# EAGLE library part TC1320EOA (library unicorn)
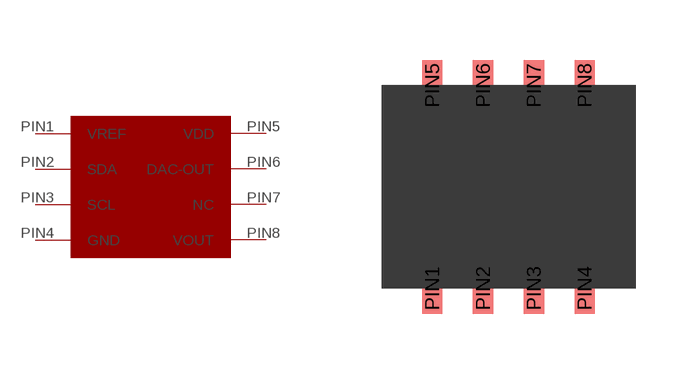
[diagram p2: symbol with the pads of SOIC8; footprint SOIC8]

Designator prefix -

## TC1320EOA  [SOIC8]
PIN1  VREF
PIN2  SDA
PIN3  SCL
PIN4  GND
PIN5  VDD
PIN6  DAC-OUT
PIN7  NC
PIN8  VOUT

## Footprint SOIC8 (pad centres in mm)
smd 0.508 x 1.27: PIN1 -1.27,-2.54; PIN2 0,-2.54; PIN3 1.27,-2.54; PIN4 2.54,-2.54; PIN5 -1.27,2.54; PIN6 0,2.54; PIN7 1.27,2.54; PIN8 2.54,2.54